# Altium integrated library altera-stratix-iv.IntLib: 38 symbols (part 9 of 21)
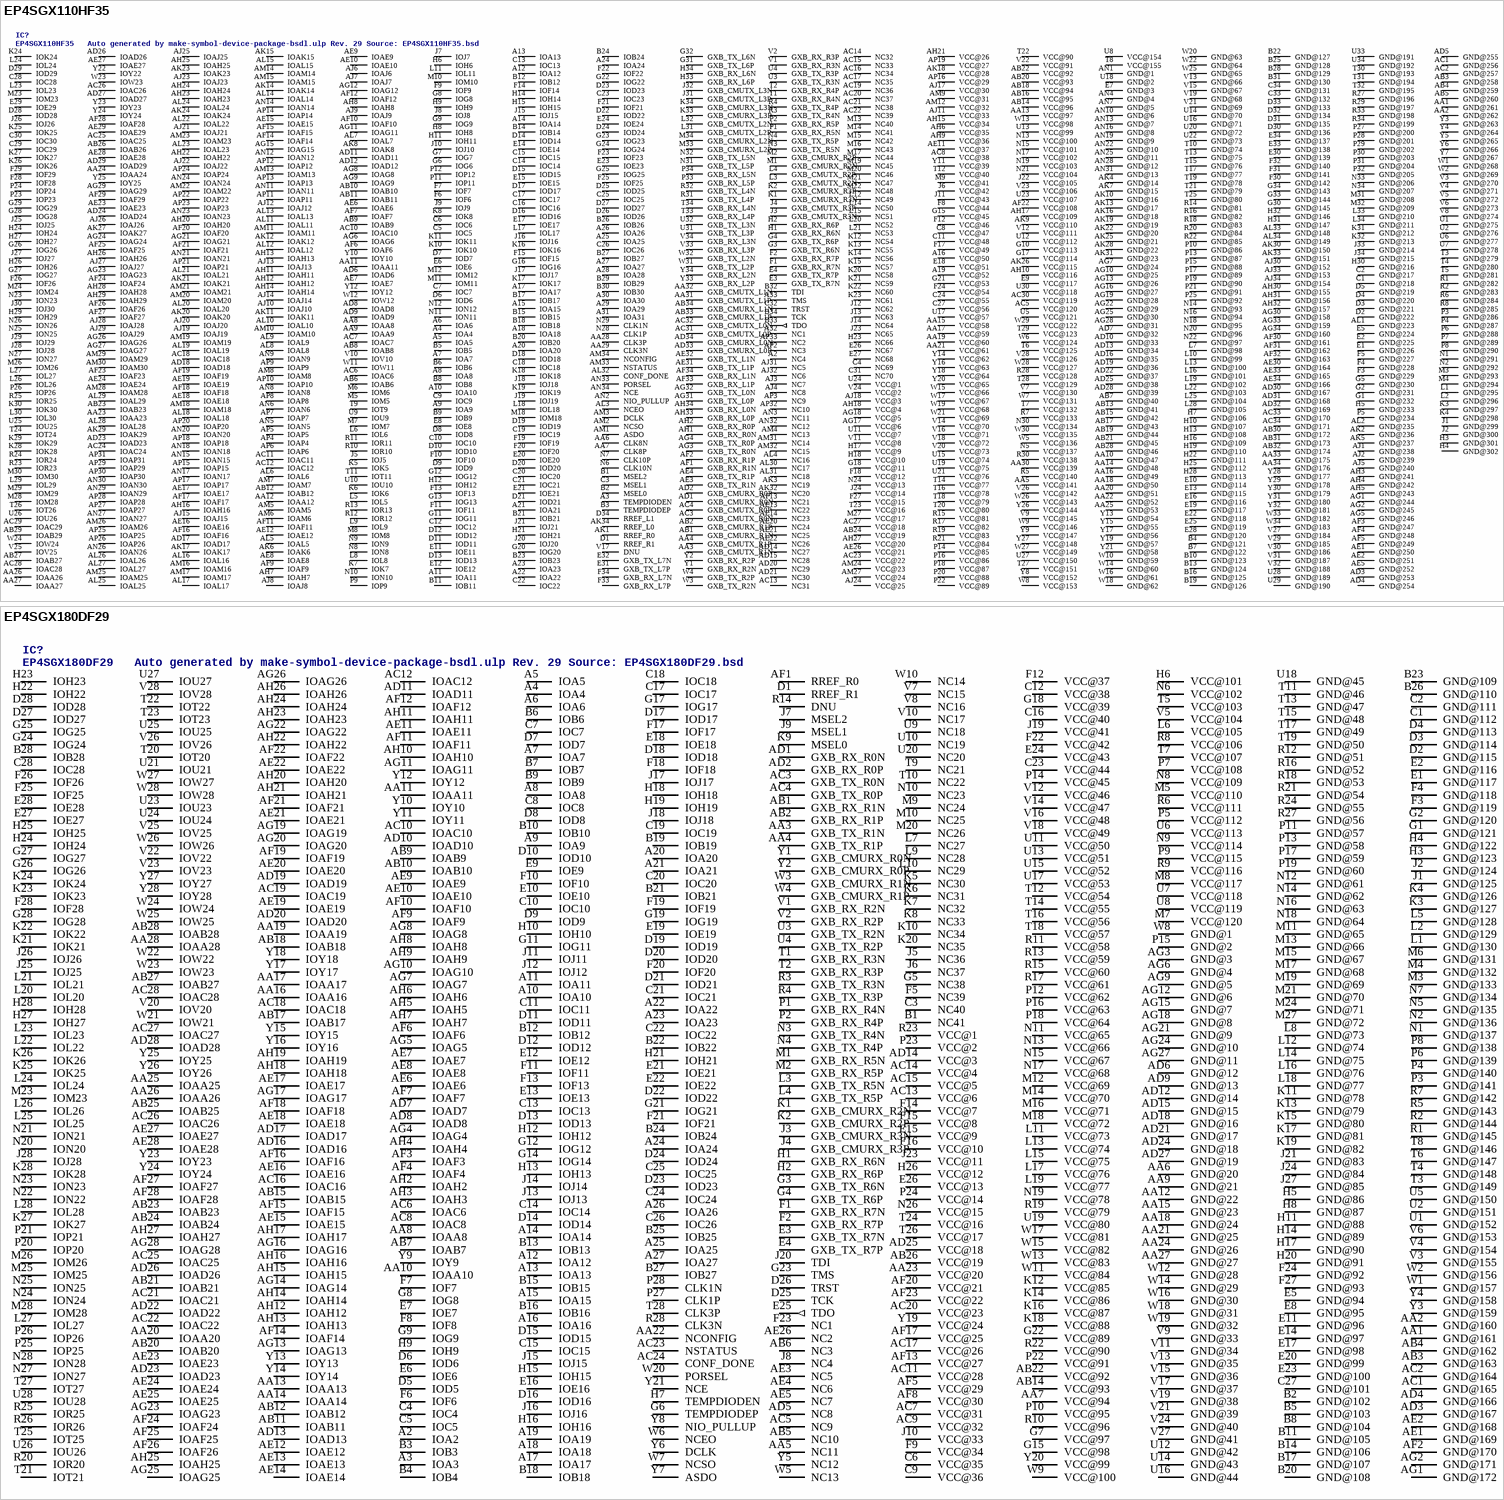
[diagram p24: symbols EP4SGX110HF35 to EP4SGX180DF29]

## EP4SGX110HF35
designator IC?, comment EP4SGX110HF35   Auto generated by make-symbol-device-package-bsdl.ulp Rev. 29 Source: EP4SGX110HF35.bsd
MPN: EP4SGX110HF35C2N; OC_FARNELL: unknown; OC_NEWARK: 52R1770
footprint FBGA1152
pins: A2 NC4, A3 TEMPDIODEN, A4 IOA4, A5 IOA5, A6 IOA6, A7 IOA7, A8 IOA8, A9 IOA9, A10 IOA10, A11 IOA11, A12 IOA12, A13 IOA13, A14 IOA14, A15 IOA15, A16 VCC@50 (power), A17 IOA17, A18 IOA18, A19 VCC@52 (power), A20 IOA20, A21 IOA21, A22 IOA22, A23 IOA23, A24 IOA24, A25 IOA25, A26 IOA26, A27 IOA27, A28 IOA28, A29 IOA29, A30 IOA30, A31 IOA31, A32 NC1, A33 TMS, AA1 GND@261 (power), AA2 GND@262 (power), AA3 GXB_CMUTX_R1N, AA4 GXB_CMUTX_R1P, AA5 VCC@141 (power), AA6 CLK8N, AA7 CLK8P, AA8 IOAA8, AA9 IOAA9, AA10 GND@47 (power), AA11 IOAA11, AA12 IOAA12, AA13 VCC@97 (power), AA14 GND@48 (power), AA15 VCC@58 (power), AA16 GND@49 (power), AA17 VCC@59 (power), AA18 GND@50 (power), AA19 VCC@60 (power), AA20 GND@51 (power), AA21 VCC@61 (power), AA22 GND@52 (power), AA23 IOAA23, AA24 IOAA24, AA25 GND@53 (power), AA26 IOAA26, AA27 IOAA27, AA28 CLK3P, AA29 CLK3N, AA30 VCC@139 (power), AA31 GXB_CMUTX_L1P, AA32 GXB_CMUTX_L1N, AA33 GND@175 (power), AA34 GND@176 (power), AB1 GXB_CMURX_R1N, AB2 GXB_CMURX_R1P, AB3 GND@258 (power), AB4 GND@259 (power), AB5 GND@260 (power), AB6 IOAB6, AB7 GND@40 (power), AB8 IOAB8, AB9 IOAB9, AB10 IOAB10, AB11 IOAB11, AB12 IOAB12, AB13 GND@41 (power), AB14 VCC@96 (power), AB15 GND@42 (power), AB16 VCC@95 (power), AB17 GND@43 (power), AB18 VCC@94 (power), AB19 GND@44 (power), AB20 VCC@93 (power), AB21 GND@45 (power), AB22 VCC@92 (power), AB23 IOAB23, AB24 VCC@19 (power), AB26 IOAB26, AB27 IOAB27, AB28 GND@46 (power), AB29 IOAB29, AB30 GND@172 (power), AB31 GND@173 (power), AB32 GND@174 (power), AB33 GXB_CMURX_L1P, AB34 GXB_CMURX_L1N, AC1 GND@256 (power), AC2 GND@257 (power), AC3 GXB_CMUTX_R0N, AC4 GXB_CMUTX_R0P, AC5 VCC@120 (power), AC6 IOAC6, AC7 IOAC7, AC8 VCC@38 (power), AC10 IOAC10, AC11 IOAC11, AC12 IOAC12, AC13 NC31, AC14 NC32, AC15 NC33, AC16 NC34, AC17 NC35, AC18 IOAC18, AC19 NC36, AC20 NC37, AC21 NC38, AC22 NC39, AC23 VCC@22 (power), AC24 IOAC24, AC25 IOAC25, AC26 IOAC26, AC27 VCC@18 (power), AC28 IOAC28, AC29 IOAC29, AC30 VCC@119 (power), AC31 GXB_CMUTX_L0P, AC32 GXB_CMUTX_L0N, AC33 GND@170 (power), AC34 GND@171 (power), AD1 GXB_CMURX_R0N, AD2 GXB_CMURX_R0P, AD3 GND@253 (power), AD4 GND@254 (power), AD5 GND@255 (power), AD6 IOAD6, AD7 GND@32 (power), AD8 IOAD8, AD9 IOAD9, AD10 GND@33 (power), AD11 IOAD11, AD12 IOAD12, AD13 GND@34 (power), AD14 NC27, AD15 NC28, AD16 GND@35 (power), AD17 IOAD17, AD18 IOAD18, AD19 GND@36 (power), AD20 NC29, AD21 NC30, AD22 GND@37 (power), AD23 IOAD23, AD24 IOAD24, AD25 GND@38 (power), AD26 IOAD26, AD27 IOAD27, AD28 GND@39 (power), AD29 IOAD29, AD30 GND@167 (power), AD31 GND@168 (power), AD32 GND@169 (power), AD33 GXB_CMURX_L0P, AD34 GXB_CMURX_L0N, AE1 GND@250 (power), AE2 GND@251 (power), AE3 GXB_TX_R1N, AE4 GXB_TX_R1P, AE5 GND@252 (power), AE6 IOAE6, AE7 IOAE7, AE8 IOAE8, AE9 IOAE9, AE10 IOAE10, AE11 VCC@37 (power), AE12 IOAE12, AE13 NC22, AE14 NC23, AE15 IOAE15, AE16 IOAE16, AE17 IOAE17, AE18 IOAE18, AE19 IOAE19, AE20 NC24, AE21 NC25, AE22 NC26, AE23 IOAE23, AE24 IOAE24, AE26 VCC@21 (power), AE27 IOAE27, AE28 IOAE28, AE29 IOAE29, AE30 GND@164 (power), AE31 GXB_TX_L1P, AE32 GXB_TX_L1N, AE33 GND@165 (power), AE34 GND@166 (power), AF1 GXB_RX_R1N, AF2 GXB_RX_R1P, AF3 GND@247 (power), AF4 GND@248 (power), AF5 GND@249 (power), AF6 IOAF6, AF7 IOAF7, AF9 IOAF9, AF10 IOAF10, AF11 IOAF11, AF12 IOAF12, AF13 NC21, AF14 IOAF14, AF15 IOAF15, AF16 IOAF16, AF17 IOAF17, AF18 IOAF18, AF19 IOAF19, AF20 IOAF20, AF21 IOAF21, AF22 VCC@108 (power), AF23 IOAF23, AF24 IOAF24, AF25 IOAF25, AF26 IOAF26, AF27 IOAF27, AF28 IOAF28, AF29 IOAF29, AF30 GND@161 (power), AF31 GND@162 (power), AF32 GND@163 (power), AF33 GXB_RX_L1P, AF34 GXB_RX_L1N, AG1 GND@244 (power), AG2 GND@245 (power), AG3 GXB_TX_R0N, AG4 GXB_TX_R0P, AG5 GND@246 (power), AG6 IOAG6, AG7 GND@24 (power), AG8 IOAG8, AG9 IOAG9, AG10 GND@25 (power), AG11 IOAG11, AG12 IOAG12, AG13 GND@26 (power), AG15 IOAG15, AG16 GND@27 (power), AG17 VCC@6 (power), AG18 VCC@5 (power), AG19 GND@28 (power), AG21 IOAG21, AG22 GND@29 (power), AG23 IOAG23, AG24 IOAG24, AG25 GND@30 (power), AG26 IOAG26, AG27 IOAG27, AG28 GND@31 (power), AG29 IOAG29, AG30 GND@158 (power), AG31 GXB_TX_L0P, AG32 GXB_TX_L0N, AG33 GND@159 (power), AG34 GND@160 (power), AH1 GXB_RX_R0N, AH2 GXB_RX_R0P, AH3 GND@241 (power), AH4 GND@242 (power), AH5 GND@243 (power), AH6 VCC@35 (power), AH7 IOAH7, AH8 IOAH8, AH9 VCC@36 (power), AH10 VCC@116 (power), AH11 IOAH11, AH12 IOAH12, AH13 IOAH13, AH14 IOAH14, AH15 VCC@34 (power), AH16 IOAH16, AH17 VCC@109 (power), AH18 VCC@4 (power), AH20 IOAH20, AH21 VCC@26 (power), AH22 IOAH22, AH23 IOAH23, AH24 IOAH24, AH25 IOAH25, AH26 IOAH26, AH27 VCC@20 (power), AH28 IOAH28, AH29 IOAH29, AH30 GND@155 (power), AH31 GND@156 (power), AH32 GND@157 (power), AH33 GXB_RX_L0P, AH34 GXB_RX_L0N, AJ1 GND@238 (power), AJ2 GND@239 (power), AJ3 NC7, AJ4 NC8, AJ5 GND@240 (power), AJ6 IOAJ6, AJ7 IOAJ7, AJ8 IOAJ8, AJ9 IOAJ9, AJ10 IOAJ10, AJ11 VCC@33 (power), AJ12 IOAJ12, AJ13 IOAJ13, AJ14 IOAJ14, AJ15 IOAJ15, AJ17 VCC@30 (power), AJ18 VCC@3 (power), AJ19 IOAJ19, AJ20 IOAJ20, AJ21 IOAJ21, AJ22 IOAJ22, AJ23 IOAJ23, AJ24 VCC@25 (power), AJ25 IOAJ25, AJ26 IOAJ26, AJ27 IOAJ27, AJ28 IOAJ28, AJ29 IOAJ29, AJ30 GND@152 (power), AJ31 NC5, AJ32 NC6, AJ33 GND@153 (power), AJ34 GND@154 (power), AK1 RREF_R0, AK2 GND@236 (power), AK3 NC19, AK4 GND@14 (power), AK5 GND@237 (power), AK6 IOAK6, AK7 GND@15 (power), AK8 IOAK8, AK9 VCC@110 (power), AK10 GND@16 (power), AK11 IOAK11, AK12 IOAK12, AK13 GND@17 (power), AK14 IOAK14, AK15 IOAK15, AK16 GND@18 (power), AK17 IOAK17, AK18 VCC@28 (power), AK19 GND@19 (power), AK20 IOAK20, AK21 IOAK21, AK22 GND@20 (power), AK23 IOAK23, AK24 IOAK24, AK25 GND@21 (power), AK26 VCC@115 (power), AK27 IOAK27, AK28 GND@22 (power), AK29 IOAK29, AK30 GND@150 (power), AK31 GND@23 (power), AK32 NC20, AK33 GND@151 (power), AK34 RREF_L0, AL1 GND@223 (power), AL2 GND@235 (power), AL3 NCEO, AL4 NC16, AL5 IOAL5, AL6 IOAL6, AL7 IOAL7, AL8 IOAL8, AL9 IOAL9, AL10 IOAL10, AL11 IOAL11, AL12 IOAL12, AL13 IOAL13, AL14 IOAL14, AL15 IOAL15, AL16 IOAL16, AL17 IOAL17, AL18 IOAL18, AL19 IOAL19, AL20 IOAL20, AL21 IOAL21, AL22 IOAL22, AL23 IOAL23, AL24 IOAL24, AL25 IOAL25, AL26 IOAL26, AL27 IOAL27, AL28 IOAL28, AL29 IOAL29, AL30 NC17, AL31 NC18, AL32 CONF_DONE, AL33 GND@148 (power), AL34 GND@149 (power), AM1 ASDO, AM2 NCSO, AM3 DCLK, AM4 NC13, AM5 IOAM5, AM6 IOAM6, AM7 IOAM7, AM8 IOAM8, AM9 VCC@31 (power), AM10 IOAM10, AM11 IOAM11, AM12 VCC@32 (power), AM13 IOAM13, AM14 IOAM14, AM15 IOAM15, AM16 IOAM16, AM17 IOAM17, AM18 IOAM18, AM19 IOAM19, AM20 IOAM20, AM21 IOAM21, AM22 IOAM22, AM23 IOAM23, AM24 VCC@23 (power), AM25 IOAM25, AM26 IOAM26, AM27 VCC@24 (power), AM28 IOAM28, AM29 IOAM29, AM30 IOAM30, AM31 NC14, AM32 NC15, AM33 NSTATUS, AM34 NCONFIG, AN1 GND@1 (power), AN2 NIO_PULLUP, AN3 NC11, AN4 GND@4 (power), AN5 IOAN5, AN6 IOAN6, AN7 GND@5 (power), AN8 IOAN8, AN9 IOAN9, AN10 GND@6 (power), AN11 IOAN11, AN12 IOAN12, AN13 GND@7 (power), AN14 IOAN14, AN15 IOAN15, AN16 GND@8 (power), AN17 IOAN17, AN18 IOAN18, AN19 GND@9 (power), AN20 IOAN20, AN21 IOAN21, AN22 GND@10 (power), AN23 IOAN23, AN24 IOAN24, AN25 GND@11 (power), AN26 IOAN26, AN27 IOAN27, AN28 GND@12 (power), AN29 IOAN29, AN30 IOAN30, AN31 GND@13 (power), AN32 NC12, AN33 PORSEL, AN34 NCE, AP2 NC3, AP3 NC9, AP4 IOAP4, AP5 IOAP5, AP6 IOAP6, AP7 IOAP7, AP8 IOAP8, AP9 IOAP9, AP10 IOAP10, AP11 IOAP11, AP12 IOAP12, AP13 IOAP13, AP14 IOAP14, AP15 IOAP15, AP16 VCC@29 (power), AP17 IOAP17, AP18 IOAP18, AP19 VCC@27 (power), AP20 IOAP20, AP21 IOAP21, AP22 IOAP22, AP23 IOAP23, AP24 IOAP24, AP25 IOAP25, AP26 IOAP26, AP27 IOAP27, AP28 IOAP28, AP29 IOAP29, AP30 IOAP30, AP31 IOAP31, AP32 NC10, AP33 NC2, B1 MSEL2, B2 MSEL0, B3 TEMPDIODEP, B4 GND@121 (power), B5 IOB5, B6 IOB6, B7 GND@122 (power), B8 IOB8, B9 IOB9, B10 GND@123 (power), B11 IOB11, B12 IOB12, B13 GND@124 (power), B14 IOB14, B15 IOB15, B16 GND@125 (power), B17 IOB17, B18 IOB18, B19 GND@126 (power), B20 IOB20, B21 IOB21, B22 GND@127 (power), B23 IOB23, B24 IOB24, B25 GND@128 (power), B26 IOB26, B27 IOB27, B28 GND@129 (power), B29 IOB29, B30 IOB30, B31 GND@130 (power), B32 TDI, B33 TDO (out), B34 TCK, C1 GND@218 (power), C2 GND@217 (power), C3 MSEL1, C4 NC69, C5 IOC5, C6 IOC6, C7 IOC7, C8 VCC@47 (power), C9 IOC9, C10 IOC10, C11 VCC@48 (power), C12 IOC12, C13 IOC13, C14 IOC14, C15 IOC15, C16 IOC16, C17 IOC17, C18 IOC18, C19 IOC19, C20 IOC20, C21 IOC21, C22 IOC22, C23 IOC23, C24 VCC@55 (power), C25 IOC25, C26 IOC26, C27 VCC@56 (power), C28 IOC28, C29 IOC29, C30 IOC30, C31 NC70, C32 TRST, C33 GND@132 (power), C34 GND@131 (power), D1 RREF_R1, D2 GND@222 (power), D3 GND@221 (power), D4 GND@220 (power), D5 GND@219 (power), D6 IOD6, D7 IOD7, D8 IOD8, D9 IOD9, D10 IOD10, D11 IOD11, D12 IOD12, D13 IOD13, D14 IOD14, D15 IOD15, D16 IOD16, D17 IOD17, D18 IOD18, D19 IOD19, D20 IOD20, D21 IOD21, D22 IOD22, D23 IOD23, D24 IOD24, D25 IOD25, D26 IOD26, D27 IOD27, D28 IOD28, D29 IOD29, D30 GND@136 (power), D31 GND@135 (power), D32 GND@134 (power), D33 GND@133 (power), D34 RREF_L1, E1 GND@226 (power), E2 GND@225 (power), E3 GXB_TX_R7N, E4 GXB_TX_R7P, E5 GND@224 (power), E6 IOE6, E7 GND@3 (power), E8 IOE8, E9 VCC@117 (power), E10 GND@114 (power), E11 IOE11, E12 IOE12, E13 GND@115 (power), E14 IOE14, E15 IOE15, E16 GND@116 (power), E17 IOE17, E18 VCC@51 (power), E19 GND@117 (power), E20 IOE20, E21 IOE21, E22 GND@118 (power), E23 IOE23, E24 IOE24, E25 GND@119 (power), E26 NC67, E27 NC68, E28 GND@120 (power), E29 IOE29, E30 GND@139 (power), E31 GXB_TX_L7P, E32 GXB_TX_L7N, E33 GND@138 (power), E34 GND@137 (power), F1 GXB_RX_R7N, F2 GXB_RX_R7P, F3 GND@229 (power), F4 GND@228 (power), F5 GND@227 (power), F6 IOF6, F7 IOF7, F8 VCC@44 (power), F9 IOF9, F10 IOF10, F11 IOF11, F12 VCC@46 (power), F13 IOF13, F14 IOF14, F15 IOF15, F17 VCC@49 (power), F18 VCC@12 (power), F19 IOF19, F20 IOF20, F21 IOF21, F22 IOF22, F23 IOF23, F24 VCC@54 (power), F25 IOF25, F26 IOF26, F27 VCC@15 (power), F28 IOF28, F29 IOF29, F30 GND@142 (power), F31 GND@141 (power), F32 GND@140 (power), F33 GXB_RX_L7P, F34 GXB_RX_L7N, G1 GND@232 (power), G2 GND@231 (power), G3 GXB_TX_R6N, G4 GXB_TX_R6P, G5 GND@230 (power), G6 IOG6, G7 IOG7, G8 IOG8, G9 IOG9, G10 VCC@113 (power), G11 IOG11, G12 IOG12, G13 IOG13, G15 VCC@45 (power), G16 IOG16, G17 VCC@114 (power), G18 VCC@11 (power), G20 IOG20, G21 VCC@53 (power), G22 IOG22, G23 IOG23, G24 IOG24, G25 IOG25, G26 IOG26, G27 IOG27, G28 IOG28, G29 IOG29, G30 GND@145 (power), G31 GXB_TX_L6P, G32 GXB_TX_L6N, G33 GND@144 (power), G34 GND@143 (power), H1 GXB_RX_R6N, H2 GXB_RX_R6P, H3 GND@301 (power), H4 GND@302 (power), H5 GND@233 (power), H6 IOH6, H7 GND@106 (power), H8 IOH8, H9 IOH9, H10 GND@107 (power), H11 IOH11, H12 IOH12, H13 GND@108 (power), H14 IOH14, H15 IOH15, H16 GND@109 (power), H17 VCC@9 (power), H18 VCC@10 (power), H19 GND@110 (power), H21 IOH21, H22 GND@111 (power), H23 NC66, H24 IOH24, H25 GND@112 (power), H26 IOH26, H27 IOH27, H28 GND@113 (power), H29 IOH29, H30 GND@216 (power), H31 GND@147 (power), H32 GND@146 (power), H33 GXB_RX_L6P, H34 GXB_RX_L6N, J1 GND@299 (power), J2 GND@300 (power), J3 GXB_CMUTX_R3N, J4 GXB_CMUTX_R3P, J5 IOJ5, J6 VCC@42 (power), J7 IOJ7, J8 IOJ8, J9 IOJ9, J10 IOJ10, J11 VCC@43 (power), J12 NC62, J13 NC63, J14 NC64, J15 IOJ15, J16 IOJ16, J17 IOJ17, J18 IOJ18, J19 IOJ19, J20 IOJ20, J21 IOJ21, J22 VCC@105 (power), J23 NC65, J24 VCC@14 (power), J25 IOJ25, J26 IOJ26, J27 IOJ27, J28 IOJ28, J29 IOJ29, J30 IOJ30, J31 GXB_CMUTX_L3P, J32 GXB_CMUTX_L3N, J33 GND@214 (power), J34 GND@215 (power), K1 GXB_CMURX_R3N, K2 GXB_CMURX_R3P, K3 GND@297 (power), K4 GND@298 (power), K5 IOK5, K6 IOK6, K7 IOK7, K8 IOK8, K10 IOK10, K11 IOK11, K12 NC54, K13 NC55, K14 NC56, K15 NC57, K16 IOK16, K17 IOK17, K18 IOK18, K19 IOK19, K20 NC58, K21 NC59, K22 NC60, K23 NC61, K24 IOK24, K25 IOK25, K26 IOK26, K27 IOK27, K28 IOK28, K29 IOK29, K30 IOK30, K31 GND@212 (power), K32 GND@213 (power), K33 GXB_CMURX_L3P, K34 GXB_CMURX_L3N, L1 GND@295 (power), L2 GND@296 (power), L3 GXB_CMUTX_R2N, L4 GXB_CMUTX_R2P, L5 IOL5, L6 IOL6, L7 GND@98 (power), L8 IOL8, L9 IOL9, L10 GND@99 (power), L11 IOL11, L12 NC49, L13 GND@100 (power), L14 NC50, L15 NC51, L16 GND@101 (power), L17 IOL17, L18 IOL18, L19 GND@102 (power), L20 NC52, L21 NC53, L22 GND@103 (power), L23 IOL23, L24 IOL24, L25 GND@104 (power), L26 IOL26, L27 IOL27, L28 GND@105 (power), L29 IOL29, L30 IOL30, L31 GXB_CMUTX_L2P, L32 GXB_CMUTX_L2N, L33 GND@210 (power), L34 GND@211 (power), M1 GXB_CMURX_R2N, M2 GXB_CMURX_R2P, M3 GND@293 (power), M4 GND@294 (power), M5 IOM5, M6 IOM6, M7 IOM7, M8 IOM8, M9 VCC@41 (power), M10 IOM10, M11 IOM11, M12 IOM12, M13 NC40, M14 NC41, M15 NC42, M16 NC43, M17 NC44, M18 IOM18, M19 NC45, M20 NC46, M21 NC47, M22 NC48, M23 IOM23, M24 IOM24, M26 IOM26, M27 VCC@17 (power), M28 IOM28, M29 IOM29, M30 IOM30, M31 GND@208 (power), M32 GND@209 (power), M33 GXB_CMURX_L2P, M34 GXB_CMURX_L2N, N1 GND@291 (power), N2 GND@292 (power), N3 GXB_TX_R5N, N4 GXB_TX_R5P, N5 VCC@137 (power), N6 CLK10N, N7 CLK10P, N8 ION8, N9 ION9, N10 ION10, N11 ION11, N12 ION12, N13 VCC@100 (power), N14 GND@93 (power), N15 VCC@101 (power), N16 GND@94 (power), N17 VCC@102 (power), N18 GND@95 (power), N19 VCC@103 (power), N20 GND@96 (power), N21 VCC@104 (power), N22 GND@97 (power), N23 ION23, N24 VCC@13 (power), N25 ION25, N26 ION26, N27 ION27, N28 CLK1P, N29 CLK1N, N30 VCC@134 (power), N31 GXB_TX_L5P, N32 GXB_TX_L5N, N33 GND@206 (power), N34 GND@207 (power), P1 GXB_RX_R5N, P2 GXB_RX_R5P, P3 GND@286 (power), P4 GND@287 (power), P5 GND@234 (power), P6 GND@288 (power), P7 GND@289 (power), P8 GND@290 (power), P9 IOP9, P10 GND@86 (power), P11 IOP11, P12 IOP12, P13 GND@87 (power), P14 VCC@85 (power), P15 GND@88 (power), P16 VCC@86 (power), P17 GND@89 (power), P18 VCC@87 (power), P19 GND@90 (power), P20 VCC@88 (power), P21 GND@91 (power), P22 VCC@89 (power), P23 IOP23, P24 IOP24, P25 GND@92 (power), P26 IOP26, P27 GND@200 (power), P28 GND@201 (power), P29 GND@202 (power), P30 GND@203 (power), P31 GND@204 (power), P32 GND@205 (power), P33 GXB_RX_L5P, P34 GXB_RX_L5N, R1 GND@282 (power), R2 GND@283 (power), R3 GXB_TX_R4N, R4 GXB_TX_R4P, R5 VCC@140 (power), R6 GND@284 (power), R7 VCC@133 (power), R8 GND@285 (power), R10 IOR10, R11 IOR11, R12 IOR12, R13 IOR13, R14 GND@81 (power), R15 VCC@81 (power), R16 GND@82 (power), R17 VCC@82 (power), R18 GND@83 (power), R19 VCC@83 (power), R20 GND@84 (power), R21 VCC@84 (power), R22 GND@85 (power), R23 IOR23, R24 IOR24, R25 IOR25, R27 GND@196 (power), R28 VCC@128 (power), R29 GND@197 (power), R30 VCC@138 (power), R31 GXB_TX_L4P, R32 GXB_TX_L4N, R33 GND@198 (power), R34 GND@199 (power), T1 GXB_RX_R4N, T2 GXB_RX_R4P, T3 GND@279 (power), T4 GND@280 (power), T5 GND@281 (power), T6 VCC@125 (power), T7 VCC@132 (power), T8 VCC@155 (power), T9 IOT9, T10 GND@74 (power), T11 IOT11, T12 VCC@40 (power), T13 GND@75 (power), T14 VCC@77 (power), T15 GND@76 (power), T16 VCC@78 (power), T17 GND@77 (power), T18 VCC@79 (power), T19 GND@78 (power), T20 VCC@80 (power), T21 GND@79 (power), T22 VCC@90 (power), T23 VCC@16 (power), T24 IOT24, T25 GND@80 (power), T26 IOT26, T27 VCC@151 (power), T28 VCC@129 (power), T29 VCC@123 (power), T30 GND@193 (power), T31 GND@194 (power), T32 GND@195 (power), T33 GXB_RX_L4P, T34 GXB_RX_L4N, U1 GND@275 (power), U2 GND@276 (power), U3 GXB_TX_R3N, U4 GXB_TX_R3P, U5 VCC@121 (power), U6 GND@277 (power), U7 GND@278 (power), U8 VCC@154 (power), U9 IOU9, U10 IOU10, U11 VCC@7 (power), U12 VCC@112 (power), U13 VCC@99 (power), U14 GND@70 (power), U15 VCC@74 (power), U16 GND@71 (power), U17 VCC@57 (power), U18 GND@2 (power), U19 VCC@75 (power), U20 GND@72 (power), U21 VCC@76 (power), U22 GND@73 (power), U23 VCC@107 (power), U24 VCC@1 (power), U25 IOU25, U26 IOU26, U27 VCC@150 (power), U28 GND@189 (power), U29 GND@190 (power), U30 VCC@118 (power), U31 GXB_TX_L3P, U32 GXB_TX_L3N, U33 GND@191 (power), U34 GND@192 (power), V1 GXB_RX_R3N, V2 GXB_RX_R3P, V3 GND@270 (power), V4 GND@271 (power), V5 GND@272 (power), V6 GND@273 (power), V7 VCC@130 (power), V8 GND@274 (power), V9 VCC@145 (power), V10 IOV10, V11 VCC@8 (power), V12 VCC@111 (power), V13 GND@66 (power), V14 VCC@70 (power), V15 GND@67 (power), V16 VCC@71 (power), V17 DNU, V18 VCC@72 (power), V19 GND@68 (power), V20 VCC@73 (power), V21 GND@69 (power), V22 VCC@91 (power), V23 VCC@106 (power), V24 VCC@2 (power), V25 IOV25, V26 VCC@142 (power), V27 GND@184 (power), V28 VCC@126 (power), V29 GND@185 (power), V30 GND@186 (power), V31 GND@187 (power), V32 GND@188 (power), V33 GXB_RX_L3P, V34 GXB_RX_L3N, W1 GND@268 (power), W2 GND@269 (power), W3 GXB_TX_R2N, W4 GXB_TX_R2P, W5 VCC@136 (power), W6 VCC@124 (power), W7 VCC@131 (power), W8 VCC@153 (power), W9 VCC@146 (power), W10 GND@59 (power), W11 IOW11, W12 IOW12, W13 VCC@98 (power), W14 GND@60 (power), W15 VCC@66 (power), W16 GND@61 (power), W17 VCC@67 (power), W18 GND@62 (power), W19 VCC@68 (power), W20 GND@63 (power), W21 VCC@69 (power), W22 GND@64 (power), W23 IOW23, W24 IOW24, W25 GND@65 (power), W26 VCC@143 (power), W27 VCC@149 (power), W28 VCC@127 (power), W29 VCC@122 (power), W30 VCC@135 (power), W31 GXB_TX_L2P, W32 GXB_TX_L2N, W33 GND@182 (power), W34 GND@183 (power), Y1 GXB_RX_R2N, Y2 GXB_RX_R2P, Y3 GND@263 (power), Y4 GND@264 (power), Y5 GND@265 (power), Y6 GND@266 (power), Y7 GND@267 (power), Y8 VCC@152 (power), Y9 VCC@147 (power), Y10 IOY10, Y11 VCC@39 (power), Y12 IOY12, Y13 GND@54 (power), Y14 VCC@62 (power), Y15 GND@55 (power), Y16 VCC@63 (power), Y17 GND@56 (power), Y18 VCC@64 (power), Y19 GND@57 (power), Y20 VCC@65 (power), Y21 GND@58 (power), Y22 IOY22, Y23 IOY23, Y24 IOY24, Y25 IOY25, Y26 VCC@144 (power), Y27 VCC@148 (power), Y28 GND@177 (power), Y29 GND@178 (power), Y30 GND@179 (power), Y31 GND@180 (power), Y32 GND@181 (power), Y33 GXB_RX_L2P, Y34 GXB_RX_L2N

## EP4SGX180DF29
designator IC?, comment EP4SGX180DF29   Auto generated by make-symbol-device-package-bsdl.ulp Rev. 29 Source: EP4SGX180DF29.bsd
MPN: EP4SGX180DF29C3N; OC_FARNELL: unknown; OC_NEWARK: 52R1782
footprint FBGA780
pins: A2 IOA2, A3 IOA3, A4 IOA4, A5 IOA5, A6 IOA6, A7 IOA7, A8 IOA8, A9 IOA9, A10 IOA10, A11 IOA11, A12 IOA12, A13 IOA13, A14 IOA14, A15 IOA15, A16 IOA16, A17 IOA17, A18 IOA18, A19 IOA19, A20 IOA20, A21 IOA21, A22 IOA22, A23 IOA23, A24 IOA24, A25 IOA25, A26 IOA26, A27 IOA27, AA1 GND@161 (power), AA2 GND@160 (power), AA3 GXB_TX_R1N, AA4 GXB_TX_R1P, AA5 NC11, AA6 GND@20 (power), AA7 VCC@94 (power), AA8 IOAA8, AA9 GND@21 (power), AA10 IOAA10, AA11 IOAA11, AA12 GND@22 (power), AA13 IOAA13, AA14 IOAA14, AA15 GND@23 (power), AA16 IOAA16, AA17 IOAA17, AA18 GND@24 (power), AA19 IOAA19, AA20 IOAA20, AA21 GND@25 (power), AA22 NCONFIG, AA23 VCC@20 (power), AA24 GND@26 (power), AA25 IOAA25, AA26 IOAA26, AA27 GND@27 (power), AA28 IOAA28, AB1 GXB_RX_R1N, AB2 GXB_RX_R1P, AB3 GND@163 (power), AB4 GND@162 (power), AB5 NC10, AB6 NC3, AB7 IOAB7, AB9 IOAB9, AB10 IOAB10, AB11 IOAB11, AB12 IOAB12, AB14 VCC@93 (power), AB15 IOAB15, AB17 IOAB17, AB18 IOAB18, AB20 IOAB20, AB21 IOAB21, AB22 VCC@92 (power), AB23 IOAB23, AB24 IOAB24, AB25 IOAB25, AB26 VCC@19 (power), AB27 IOAB27, AB28 IOAB28, AC1 GND@165 (power), AC2 GND@164 (power), AC3 GXB_TX_R0N, AC4 GXB_TX_R0P, AC5 NC9, AC6 IOAC6, AC7 VCC@31 (power), AC8 IOAC8, AC9 VCC@32 (power), AC10 IOAC10, AC11 VCC@28 (power), AC12 IOAC12, AC13 VCC@6 (power), AC14 VCC@4 (power), AC15 VCC@5 (power), AC16 IOAC16, AC17 VCC@26 (power), AC18 IOAC18, AC19 IOAC19, AC20 VCC@23 (power), AC21 IOAC21, AC22 IOAC22, AC23 NSTATUS, AC24 CONF_DONE, AC25 IOAC25, AC26 IOAC26, AC27 IOAC27, AC28 IOAC28, AD1 GXB_RX_R0N, AD2 GXB_RX_R0P, AD3 GND@167 (power), AD4 GND@166 (power), AD5 NC8, AD6 GND@12 (power), AD7 IOAD7, AD8 IOAD8, AD9 GND@13 (power), AD10 IOAD10, AD11 IOAD11, AD12 GND@14 (power), AD13 IOAD13, AD14 VCC@3 (power), AD15 GND@15 (power), AD16 IOAD16, AD17 IOAD17, AD18 GND@16 (power), AD19 IOAD19, AD20 IOAD20, AD21 GND@17 (power), AD22 IOAD22, AD23 IOAD23, AD24 GND@18 (power), AD25 VCC@18 (power), AD26 IOAD26, AD27 GND@19 (power), AD28 IOAD28, AE1 GND@169 (power), AE2 GND@168 (power), AE3 NC5, AE4 NC6, AE5 NC7, AE6 IOAE6, AE7 IOAE7, AE8 IOAE8, AE9 IOAE9, AE10 IOAE10, AE11 IOAE11, AE12 IOAE12, AE13 IOAE13, AE14 IOAE14, AE15 IOAE15, AE16 IOAE16, AE17 IOAE17, AE18 IOAE18, AE19 IOAE19, AE20 IOAE20, AE21 IOAE21, AE22 IOAE22, AE23 IOAE23, AE24 IOAE24, AE25 IOAE25, AE26 NC2, AE27 IOAE27, AE28 IOAE28, AF1 RREF_R0, AF2 GND@170 (power), AF3 IOAF3, AF4 IOAF4, AF5 VCC@29 (power), AF6 IOAF6, AF7 IOAF7, AF8 VCC@30 (power), AF9 IOAF9, AF10 IOAF10, AF11 IOAF11, AF12 IOAF12, AF13 VCC@27 (power), AF14 IOAF14, AF15 IOAF15, AF16 IOAF16, AF17 VCC@25 (power), AF18 IOAF18, AF19 IOAF19, AF20 VCC@21 (power), AF21 IOAF21, AF22 IOAF22, AF23 VCC@22 (power), AF24 IOAF24, AF25 IOAF25, AF26 IOAF26, AF27 IOAF27, AF28 IOAF28, AG1 GND@172 (power), AG2 GND@171 (power), AG3 GND@3 (power), AG4 IOAG4, AG5 IOAG5, AG6 GND@4 (power), AG7 IOAG7, AG8 IOAG8, AG9 GND@5 (power), AG10 IOAG10, AG11 IOAG11, AG12 GND@6 (power), AG13 IOAG13, AG14 IOAG14, AG15 GND@7 (power), AG16 IOAG16, AG17 IOAG17, AG18 GND@8 (power), AG19 IOAG19, AG20 IOAG20, AG21 GND@9 (power), AG22 IOAG22, AG23 IOAG23, AG24 GND@10 (power), AG25 IOAG25, AG26 IOAG26, AG27 GND@11 (power), AG28 IOAG28, AH2 IOAH2, AH3 IOAH3, AH4 IOAH4, AH5 IOAH5, AH6 IOAH6, AH7 IOAH7, AH8 IOAH8, AH9 IOAH9, AH10 IOAH10, AH11 IOAH11, AH12 IOAH12, AH13 IOAH13, AH14 IOAH14, AH15 IOAH15, AH16 IOAH16, AH17 IOAH17, AH18 IOAH18, AH19 IOAH19, AH20 IOAH20, AH21 IOAH21, AH22 IOAH22, AH23 IOAH23, AH24 IOAH24, AH25 IOAH25, AH26 IOAH26, AH27 IOAH27, B1 NC41, B2 GND@102 (power), B3 IOB3, B4 IOB4, B5 GND@103 (power), B6 IOB6, B7 IOB7, B8 GND@104 (power), B9 IOB9, B10 IOB10, B11 GND@105 (power), B12 IOB12, B13 IOB13, B14 GND@106 (power), B15 IOB15, B16 IOB16, B17 GND@107 (power), B18 IOB18, B19 IOB19, B20 GND@108 (power), B21 IOB21, B22 IOB22, B23 GND@109 (power), B24 IOB24, B25 IOB25, B26 GND@110 (power), B27 IOB27, B28 IOB28, C1 GND@112 (power), C2 GND@111 (power), C3 NC40, C4 IOC4, C5 IOC5, C6 VCC@35 (power), C7 IOC7, C8 IOC8, C9 VCC@36 (power), C10 IOC10, C11 IOC11, C12 VCC@38 (power), C13 IOC13, C14 IOC14, C15 IOC15, C16 VCC@40 (power), C17 IOC17, C18 IOC18, C19 IOC19, C20 IOC20, C21 IOC21, C22 IOC22, C23 VCC@44 (power), C24 IOC24, C25 IOC25, C26 IOC26, C27 GND@101 (power), C28 IOC28, D1 RREF_R1, D2 GND@115 (power), D3 GND@114 (power), D4 GND@113 (power), D5 IOD5, D6 IOD6, D7 IOD7, D8 IOD8, D9 IOD9, D10 IOD10, D11 IOD11, D12 IOD12, D13 IOD13, D14 IOD14, D15 IOD15, D16 IOD16, D17 IOD17, D18 IOD18, D19 IOD19, D20 IOD20, D21 IOD21, D22 IOD22, D23 IOD23, D24 IOD24, D25 TCK, D26 TRST, D27 IOD27, D28 IOD28, E1 GND@117 (power), E2 GND@116 (power), E3 GXB_TX_R7N, E4 GXB_TX_R7P, E5 GND@94 (power), E6 IOE6, E7 IOE7, E8 GND@95 (power), E9 IOE9, E10 IOE10, E11 GND@96 (power), E12 IOE12, E13 IOE13, E14 GND@97 (power), E15 VCC@9 (power), E16 IOE16, E17 GND@98 (power), E18 IOE18, E19 IOE19, E20 GND@99 (power), E21 IOE21, E22 IOE22, E23 GND@100 (power), E24 VCC@43 (power), E25 TDO (out), E26 VCC@13 (power), E27 IOE27, E28 IOE28, F1 GXB_RX_R7N, F2 GXB_RX_R7P, F3 GND@119 (power), F4 GND@118 (power), F5 NC39, F6 IOF6, F7 IOF7, F8 IOF8, F9 VCC@34 (power), F10 IOF10, F11 IOF11, F12 VCC@37 (power), F13 IOF13, F14 VCC@7 (power), F15 VCC@8 (power), F16 VCC@10 (power), F17 IOF17, F18 IOF18, F19 IOF19, F20 IOF20, F21 IOF21, F22 VCC@42 (power), F23 NC1, F24 GND@92 (power), F25 IOF25, F26 IOF26, F27 GND@93 (power), F28 IOF28, G1 GND@121 (power), G2 GND@120 (power), G3 GXB_TX_R6N, G4 GXB_TX_R6P, G5 NC38, G6 TEMPDIODEP, G7 VCC@97 (power), G8 IOG8, G9 IOG9, G11 IOG11, G12 IOG12, G14 IOG14, G15 VCC@98 (power), G17 IOG17, G18 VCC@39 (power), G19 IOG19, G21 IOG21, G22 VCC@89 (power), G23 TMS, G24 IOG24, G25 IOG25, G26 IOG26, G27 IOG27, G28 IOG28, H1 GXB_RX_R6N, H2 GXB_RX_R6P, H3 GND@123 (power), H4 GND@122 (power), H5 GND@86 (power), H6 VCC@101 (power), H7 TEMPDIODEN, H8 GND@87 (power), H9 IOH9, H10 IOH10, H11 GND@88 (power), H12 IOH12, H13 IOH13, H14 GND@89 (power), H15 IOH15, H16 IOH16, H17 GND@90 (power), H18 IOH18, H19 IOH19, H20 GND@91 (power), H21 IOH21, H22 IOH22, H23 IOH23, H24 IOH24, H25 IOH25, H26 VCC@12 (power), H27 IOH27, H28 IOH28, J1 GND@125 (power), J2 GND@124 (power), J3 GXB_CMURX_R3N, J4 GXB_CMURX_R3P, J5 NC36, J6 NC37, J7 MSEL2, J8 NC4, J9 MSEL1, J10 VCC@33 (power), J11 IOJ11, J12 IOJ12, J13 IOJ13, J14 IOJ14, J15 IOJ15, J16 IOJ16, J17 IOJ17, J18 IOJ18, J19 VCC@41 (power), J20 TDI, J21 GND@83 (power), J23 VCC@11 (power), J24 GND@84 (power), J25 IOJ25, J26 IOJ26, J27 GND@85 (power), J28 IOJ28, K1 GXB_CMURX_R2N, K2 GXB_CMURX_R2P, K3 GND@127 (power), K4 GND@126 (power), K5 NC30, K6 NC31, K7 NC32, K8 NC33, K9 MSEL0, K10 NC34, K11 GND@78 (power), K12 VCC@85 (power), K13 GND@79 (power), K14 VCC@86 (power), K15 GND@80 (power), K16 VCC@87 (power), K17 GND@81 (power), K18 VCC@88 (power), K19 GND@82 (power), K20 NC35, K21 IOK21, K22 IOK22, K23 IOK23, K24 IOK24, K25 IOK25, K26 IOK26, K27 IOK27, K28 IOK28, L1 GND@130 (power), L2 GND@129 (power), L3 GXB_TX_R5N, L4 GXB_TX_R5P, L5 GND@128 (power), L6 VCC@105 (power), L7 NC27, L8 GND@73 (power), L9 NC28, L10 NC29, L11 VCC@73 (power), L12 GND@74 (power), L13 VCC@74 (power), L14 GND@75 (power), L15 VCC@75 (power), L16 GND@76 (power), L17 VCC@76 (power), L18 GND@77 (power), L19 VCC@77 (power), L20 IOL20, L21 IOL21, L22 IOL22, L23 IOL23, L24 IOL24, L25 IOL25, L26 IOL26, L27 IOL27, L28 IOL28, M1 GXB_RX_R5N, M2 GXB_RX_R5P, M3 GND@133 (power), M4 GND@132 (power), M5 VCC@110 (power), M6 GND@131 (power), M7 VCC@120 (power), M8 VCC@117 (power), M9 NC24, M10 NC25, M11 GND@65 (power), M12 VCC@69 (power), M13 GND@66 (power), M14 VCC@70 (power), M15 GND@67 (power), M16 VCC@71 (power), M17 GND@68 (power), M18 VCC@72 (power), M19 GND@69 (power), M20 NC26, M21 GND@70 (power), M23 IOM23, M24 GND@71 (power), M25 IOM25, M26 IOM26, M27 GND@72 (power), M28 IOM28, N1 GND@137 (power), N2 GND@136 (power), N3 GXB_TX_R4N, N4 GXB_TX_R4P, N5 GND@135 (power), N6 VCC@102 (power), N7 GND@134 (power), N8 VCC@109 (power), N9 VCC@114 (power), N10 NC23, N11 VCC@65 (power), N12 GND@61 (power), N13 VCC@66 (power), N14 GND@62 (power), N15 VCC@67 (power), N16 GND@63 (power), N17 VCC@68 (power), N18 GND@64 (power), N19 VCC@78 (power), N20 ION20, N21 ION21, N22 ION22, N23 ION23, N24 ION24, N25 ION25, N26 VCC@15 (power), N27 ION27, N28 ION28, P1 GXB_RX_R4N, P2 GXB_RX_R4P, P3 GND@141 (power), P4 GND@140 (power), P5 VCC@112 (power), P6 GND@139 (power), P7 VCC@108 (power), P8 GND@138 (power), P9 VCC@115 (power), P10 VCC@95 (power), P11 GND@57 (power), P12 VCC@62 (power), P13 GND@58 (power), P14 VCC@45 (power), P15 GND@2 (power), P16 VCC@63 (power), P17 GND@59 (power), P18 VCC@64 (power), P19 GND@60 (power), P20 IOP20, P21 IOP21, P22 VCC@91 (power), P23 VCC@2 (power), P24 VCC@14 (power), P25 IOP25, P26 IOP26, P27 CLK1P, P28 CLK1N, R1 GND@145 (power), R2 GND@144 (power), R3 GXB_TX_R3N, R4 GXB_TX_R3P, R5 GND@143 (power), R6 VCC@111 (power), R7 GND@142 (power), R8 VCC@106 (power), R9 VCC@116 (power), R10 VCC@96 (power), R11 VCC@58 (power), R12 GND@51 (power), R13 VCC@59 (power), R14 DNU, R15 VCC@60 (power), R16 GND@52 (power), R17 VCC@61 (power), R18 GND@53 (power), R19 VCC@79 (power), R20 IOR20, R21 GND@54 (power), R22 VCC@90 (power), R23 VCC@1 (power), R24 GND@55 (power), R25 IOR25, R26 IOR26, R27 GND@56 (power), R28 CLK3N, T1 GXB_RX_R3N, T2 GXB_RX_R3P, T3 GND@149 (power), T4 GND@148 (power), T5 VCC@103 (power), T6 GND@147 (power), T7 VCC@107 (power), T8 GND@146 (power), T9 NC21, T10 NC22, T11 GND@46 (power), T12 VCC@54 (power), T13 GND@47 (power), T14 VCC@55 (power), T15 GND@48 (power), T16 VCC@56 (power), T17 GND@49 (power), T18 VCC@57 (power), T19 GND@50 (power), T20 IOT20, T21 IOT21, T22 IOT22, T23 IOT23, T24 VCC@16 (power), T25 IOT25, T26 VCC@17 (power), T27 IOT27, T28 CLK3P, U1 GND@152 (power), U2 GND@151 (power), U3 GXB_TX_R2N, U4 GXB_TX_R2P, U5 GND@150 (power), U6 VCC@113 (power), U7 VCC@118 (power), U8 VCC@119 (power), U9 NC18, U10 NC19, U11 VCC@50 (power), U12 GND@42 (power), U13 VCC@51 (power), U14 GND@43 (power), U15 VCC@52 (power), U16 GND@44 (power), U17 VCC@53 (power), U18 GND@45 (power), U19 VCC@80 (power), U20 NC20, U21 IOU21, U23 IOU23, U24 IOU24, U25 IOU25, U26 IOU26, U27 IOU27, U28 IOU28, V1 GXB_RX_R2N, V2 GXB_RX_R2P, V3 GND@155 (power), V4 GND@154 (power), V5 VCC@104 (power), V6 GND@153 (power), V7 NC15, V8 NC16, V9 GND@33 (power), V10 NC17, V11 GND@34 (power), V12 VCC@46 (power), V13 GND@35 (power), V14 VCC@47 (power), V15 GND@36 (power), V16 VCC@48 (power), V17 GND@37 (power), V18 VCC@49 (power), V19 GND@38 (power), V20 IOV20, V21 GND@39 (power), V22 IOV22, V23 IOV23, V24 GND@40 (power), V25 IOV25, V26 IOV26, V27 GND@41 (power), V28 IOV28, W1 GND@157 (power), W2 GND@156 (power), W3 GXB_CMURX_R1N, W4 GXB_CMURX_R1P, W5 NC13, W6 NCEO, W7 NCSO, W8 GND@1 (power), W9 VCC@100 (power), W10 NC14, W11 VCC@84 (power), W12 GND@28 (power), W13 VCC@83 (power), W14 GND@29 (power), W15 VCC@82 (power), W16 GND@30 (power), W17 VCC@81 (power), W18 GND@31 (power), W19 GND@32 (power), W20 PORSEL, W21 IOW21, W22 IOW22, W23 IOW23, W24 IOW24, W25 IOW25, W26 IOW26, W27 IOW27, W28 IOW28, Y1 GXB_CMURX_R0N, Y2 GXB_CMURX_R0P, Y3 GND@159 (power), Y4 GND@158 (power), Y5 NC12, Y6 DCLK, Y7 ASDO, Y8 NIO_PULLUP, Y9 IOY9, Y10 IOY10, Y11 IOY11, Y12 IOY12, Y13 IOY13, Y14 IOY14, Y15 IOY15, Y16 IOY16, Y17 IOY17, Y18 IOY18, Y19 VCC@24 (power), Y20 VCC@99 (power), Y21 NCE, Y23 IOY23, Y24 IOY24, Y25 IOY25, Y26 IOY26, Y27 IOY27, Y28 IOY28

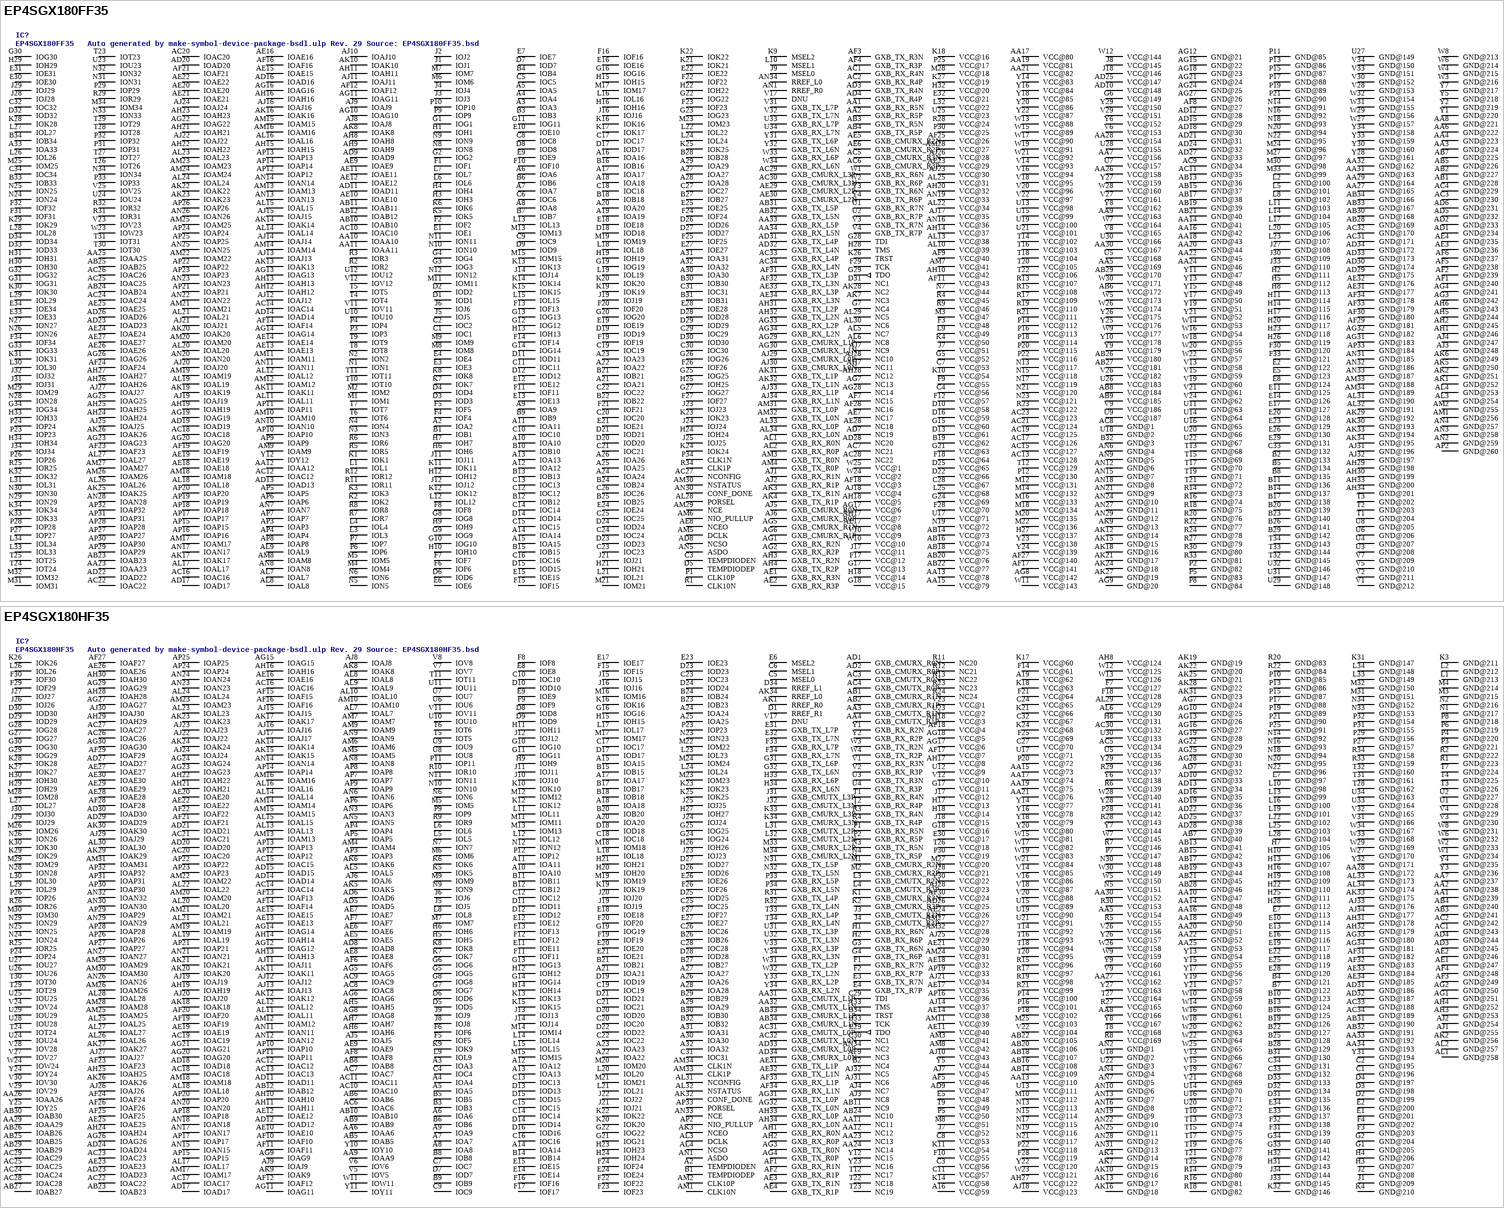
[diagram p8: symbols EP4SGX180FF35 to EP4SGX180HF35]

## EP4SGX180FF35
designator IC?, comment EP4SGX180FF35   Auto generated by make-symbol-device-package-bsdl.ulp Rev. 29 Source: EP4SGX180FF35.bsd
MPN: EP4SGX180FF35C3N; OC_FARNELL: unknown; OC_NEWARK: 52R1792
footprint FBGA1152
pins: A2 IOA2, A3 IOA3, A4 IOA4, A5 IOA5, A6 IOA6, A7 IOA7, A8 IOA8, A9 IOA9, A10 IOA10, A11 IOA11, A12 IOA12, A13 IOA13, A14 IOA14, A15 IOA15, A16 IOA16, A17 IOA17, A18 IOA18, A19 IOA19, A20 IOA20, A21 IOA21, A22 IOA22, A23 IOA23, A24 IOA24, A25 IOA25, A26 IOA26, A27 IOA27, A28 IOA28, A29 IOA29, A30 IOA30, A31 IOA31, A32 IOA32, A33 IOA33, AA1 GXB_RX_R5N, AA2 GXB_RX_R5P, AA3 GND@224 (power), AA4 GND@223 (power), AA5 VCC@169 (power), AA6 GND@222 (power), AA7 VCC@156 (power), AA8 GND@221 (power), AA9 VCC@163 (power), AA10 IOAA10, AA11 IOAA11, AA12 IOAA12, AA13 VCC@78 (power), AA14 GND@41 (power), AA15 VCC@79 (power), AA16 GND@42 (power), AA17 VCC@80 (power), AA18 GND@43 (power), AA19 VCC@81 (power), AA20 GND@44 (power), AA21 VCC@82 (power), AA22 GND@45 (power), AA23 IOAA23, AA24 GND@46 (power), AA25 IOAA25, AA26 VCC@158 (power), AA27 GND@165 (power), AA28 VCC@154 (power), AA29 GND@164 (power), AA30 VCC@167 (power), AA31 GND@163 (power), AA32 GND@162 (power), AA33 GXB_RX_L5P, AA34 GXB_RX_L5N, AB1 GND@228 (power), AB2 GND@227 (power), AB3 GXB_TX_R5N, AB4 GXB_TX_R5P, AB5 GND@226 (power), AB6 VCC@172 (power), AB7 GND@225 (power), AB8 VCC@184 (power), AB9 VCC@185 (power), AB10 IOAB10, AB11 IOAB11, AB12 IOAB12, AB13 GND@36 (power), AB14 VCC@73 (power), AB15 GND@37 (power), AB16 VCC@74 (power), AB17 GND@38 (power), AB18 VCC@75 (power), AB19 GND@39 (power), AB20 VCC@76 (power), AB21 GND@40 (power), AB22 VCC@77 (power), AB23 IOAB23, AB24 IOAB24, AB25 IOAB25, AB26 VCC@180 (power), AB27 VCC@181 (power), AB28 GND@169 (power), AB29 VCC@170 (power), AB30 GND@168 (power), AB31 GXB_TX_L5P, AB32 GXB_TX_L5N, AB33 GND@167 (power), AB34 GND@166 (power), AC1 GXB_RX_R4N, AC2 GXB_RX_R4P, AC3 GND@230 (power), AC4 GND@229 (power), AC5 GXB_CMURX_R3N, AC6 GXB_CMURX_R3P, AC7 NC21, AC8 GND@1 (power), AC9 GND@34 (power), AC10 IOAC10, AC11 GND@35 (power), AC12 IOAC12, AC13 VCC@128 (power), AC14 IOAC14, AC15 VCC@127 (power), AC16 IOAC16, AC17 VCC@126 (power), AC18 IOAC18, AC19 VCC@125 (power), AC20 IOAC20, AC21 VCC@124 (power), AC22 IOAC22, AC23 VCC@123 (power), AC24 IOAC24, AC25 IOAC25, AC26 IOAC26, AC27 NCONFIG, AC28 NC22, AC29 GXB_CMURX_L3P, AC30 GXB_CMURX_L3N, AC31 GND@171 (power), AC32 GND@170 (power), AC33 GXB_RX_L4P, AC34 GXB_RX_L4N, AD1 GND@234 (power), AD2 GND@233 (power), AD3 GXB_TX_R4N, AD4 GXB_TX_R4P, AD5 GND@232 (power), AD6 GND@231 (power), AD7 NC19, AD8 NCSO, AD9 IOAD9, AD10 VCC@148 (power), AD11 IOAD11, AD12 GND@28 (power), AD13 IOAD13, AD14 IOAD14, AD15 GND@29 (power), AD16 IOAD16, AD17 IOAD17, AD18 GND@30 (power), AD19 IOAD19, AD20 IOAD20, AD21 GND@31 (power), AD22 IOAD22, AD23 IOAD23, AD24 GND@32 (power), AD25 VCC@147 (power), AD26 IOAD26, AD27 GND@33 (power), AD28 NC20, AD29 GND@175 (power), AD30 GND@174 (power), AD31 GXB_TX_L4P, AD32 GXB_TX_L4N, AD33 GND@173 (power), AD34 GND@172 (power), AE1 GXB_RX_R3N, AE2 GXB_RX_R3P, AE3 GND@236 (power), AE4 GND@235 (power), AE5 GXB_CMURX_R2N, AE6 GXB_CMURX_R2P, AE7 NC17, AE8 NCEO, AE9 IOAE9, AE10 IOAE10, AE11 IOAE11, AE12 IOAE12, AE13 IOAE13, AE14 IOAE14, AE15 IOAE15, AE16 IOAE16, AE17 VCC@8 (power), AE18 IOAE18, AE19 IOAE19, AE20 IOAE20, AE21 IOAE21, AE22 IOAE22, AE23 VCC@29 (power), AE24 IOAE24, AE25 IOAE25, AE26 IOAE26, AE27 IOAE27, AE28 NC18, AE29 GXB_CMURX_L2P, AE30 GXB_CMURX_L2N, AE31 GND@177 (power), AE32 GND@176 (power), AE33 GXB_RX_L3P, AE34 GXB_RX_L3N, AF1 GND@240 (power), AF2 GND@239 (power), AF3 GXB_TX_R3N, AF4 GXB_TX_R3P, AF5 GND@238 (power), AF6 GND@237 (power), AF7 NC15, AF8 GND@27 (power), AF9 VCC@40 (power), AF11 VCC@43 (power), AF12 IOAF12, AF14 IOAF14, AF16 IOAF16, AF17 VCC@141 (power), AF18 VCC@3 (power), AF19 IOAF19, AF21 IOAF21, AF23 IOAF23, AF24 IOAF24, AF25 VCC@26 (power), AF27 VCC@140 (power), AF28 NC16, AF29 GND@181 (power), AF30 GND@180 (power), AF31 GXB_TX_L3P, AF32 GXB_TX_L3N, AF33 GND@179 (power), AF34 GND@178 (power), AG1 GXB_RX_R2N, AG2 GXB_RX_R2P, AG3 GND@242 (power), AG4 GND@241 (power), AG5 GXB_CMURX_R1N, AG6 GXB_CMURX_R1P, AG7 NC13, AG8 VCC@142 (power), AG9 GND@20 (power), AG10 IOAG10, AG11 IOAG11, AG12 GND@21 (power), AG13 IOAG13, AG14 IOAG14, AG15 GND@22 (power), AG16 IOAG16, AG17 VCC@6 (power), AG18 GND@23 (power), AG19 IOAG19, AG20 IOAG20, AG21 GND@24 (power), AG22 IOAG22, AG23 IOAG23, AG24 GND@25 (power), AG25 IOAG25, AG26 IOAG26, AG27 GND@26 (power), AG28 NC14, AG29 GXB_CMURX_L1P, AG30 GXB_CMURX_L1N, AG31 GND@183 (power), AG32 GND@182 (power), AG33 GXB_RX_L2P, AG34 GXB_RX_L2N, AH1 GND@246 (power), AH2 GND@245 (power), AH3 GXB_TX_R2N, AH4 GXB_TX_R2P, AH5 GND@244 (power), AH6 GND@243 (power), AH7 NC11, AH8 IOAH8, AH9 IOAH9, AH10 VCC@42 (power), AH11 IOAH11, AH12 IOAH12, AH13 IOAH13, AH14 VCC@37 (power), AH15 IOAH15, AH16 IOAH16, AH17 VCC@7 (power), AH18 VCC@5 (power), AH19 IOAH19, AH20 VCC@32 (power), AH21 IOAH21, AH22 IOAH22, AH23 IOAH23, AH24 IOAH24, AH25 IOAH25, AH26 IOAH26, AH27 IOAH27, AH28 NC12, AH29 GND@198 (power), AH30 GND@199 (power), AH31 GXB_TX_L2P, AH32 GXB_TX_L2N, AH33 GND@200 (power), AH34 GND@201 (power), AJ1 GXB_RX_R1N, AJ2 GXB_RX_R1P, AJ3 GND@248 (power), AJ4 GND@247 (power), AJ5 GXB_CMURX_R0N, AJ6 GXB_CMURX_R0P, AJ7 NC9, AJ8 IOAJ8, AJ9 IOAJ9, AJ10 IOAJ10, AJ11 IOAJ11, AJ12 IOAJ12, AJ13 IOAJ13, AJ14 IOAJ14, AJ15 IOAJ15, AJ16 IOAJ16, AJ17 VCC@35 (power), AJ18 VCC@4 (power), AJ19 IOAJ19, AJ20 IOAJ20, AJ21 IOAJ21, AJ22 IOAJ22, AJ23 VCC@30 (power), AJ24 IOAJ24, AJ25 IOAJ25, AJ26 VCC@28 (power), AJ27 IOAJ27, AJ28 NC10, AJ29 GXB_CMURX_L0P, AJ30 GXB_CMURX_L0N, AJ31 GND@196 (power), AJ32 GND@197 (power), AJ33 GXB_RX_L1P, AJ34 GXB_RX_L1N, AK1 GND@252 (power), AK2 GND@251 (power), AK3 GXB_TX_R1N, AK4 GXB_TX_R1P, AK5 GND@250 (power), AK6 GND@249 (power), AK7 NC3, AK8 IOAK8, AK9 GND@13 (power), AK10 IOAK10, AK11 IOAK11, AK12 GND@14 (power), AK13 IOAK13, AK14 IOAK14, AK15 GND@15 (power), AK16 IOAK16, AK17 IOAK17, AK18 GND@16 (power), AK19 IOAK19, AK20 IOAK20, AK21 GND@17 (power), AK22 IOAK22, AK23 IOAK23, AK24 GND@18 (power), AK25 IOAK25, AK26 IOAK26, AK27 GND@19 (power), AK28 NC2, AK29 GND@192 (power), AK30 GND@193 (power), AK31 GXB_TX_L1P, AK32 GXB_TX_L1N, AK33 GND@194 (power), AK34 GND@195 (power), AL1 GXB_RX_R0N, AL2 GXB_RX_R0P, AL3 GND@254 (power), AL4 GND@253 (power), AL5 NC7, AL6 NC8, AL7 IOAL7, AL8 IOAL8, AL9 IOAL9, AL10 VCC@39 (power), AL11 IOAL11, AL12 IOAL12, AL13 VCC@38 (power), AL14 IOAL14, AL15 IOAL15, AL16 IOAL16, AL17 IOAL17, AL18 IOAL18, AL19 IOAL19, AL20 IOAL20, AL21 IOAL21, AL22 VCC@34 (power), AL23 IOAL23, AL24 IOAL24, AL25 VCC@31 (power), AL26 IOAL26, AL27 IOAL27, AL28 PORSEL, AL29 NC5, AL30 NC6, AL31 GND@190 (power), AL32 GND@191 (power), AL33 GXB_RX_L0P, AL34 GXB_RX_L0N, AM1 GND@256 (power), AM2 GND@255 (power), AM3 GXB_TX_R0N, AM4 GXB_TX_R0P, AM5 DCLK, AM6 NIO_PULLUP, AM7 VCC@41 (power), AM8 IOAM8, AM9 IOAM9, AM10 IOAM10, AM11 IOAM11, AM12 IOAM12, AM13 IOAM13, AM14 IOAM14, AM15 IOAM15, AM16 IOAM16, AM17 IOAM17, AM18 IOAM18, AM19 IOAM19, AM20 IOAM20, AM21 IOAM21, AM22 IOAM22, AM23 IOAM23, AM24 IOAM24, AM25 IOAM25, AM26 IOAM26, AM27 IOAM27, AM28 VCC@27 (power), AM29 NCE, AM30 NSTATUS, AM31 GXB_TX_L0P, AM32 GXB_TX_L0N, AM33 GND@188 (power), AM34 GND@189 (power), AN1 RREF_R0, AN2 GND@259 (power), AN3 GND@258 (power), AN4 GND@257 (power), AN5 ASDO, AN6 GND@4 (power), AN7 IOAN7, AN8 IOAN8, AN9 GND@5 (power), AN10 IOAN10, AN11 IOAN11, AN12 GND@6 (power), AN13 IOAN13, AN14 IOAN14, AN15 GND@7 (power), AN16 VCC@36 (power), AN17 IOAN17, AN18 GND@8 (power), AN19 VCC@33 (power), AN20 IOAN20, AN21 GND@9 (power), AN22 IOAN22, AN23 IOAN23, AN24 GND@10 (power), AN25 IOAN25, AN26 IOAN26, AN27 GND@11 (power), AN28 IOAN28, AN29 GND@12 (power), AN30 CONF_DONE, AN31 GND@185 (power), AN32 GND@186 (power), AN33 GND@187 (power), AN34 RREF_L0, AP2 GND@260 (power), AP3 IOAP3, AP4 IOAP4, AP5 IOAP5, AP6 IOAP6, AP7 IOAP7, AP8 IOAP8, AP9 IOAP9, AP10 IOAP10, AP11 IOAP11, AP12 IOAP12, AP13 IOAP13, AP14 IOAP14, AP15 IOAP15, AP16 IOAP16, AP17 IOAP17, AP18 IOAP18, AP19 IOAP19, AP20 IOAP20, AP21 IOAP21, AP22 IOAP22, AP23 IOAP23, AP24 IOAP24, AP25 IOAP25, AP26 IOAP26, AP27 IOAP27, AP28 IOAP28, AP29 IOAP29, AP30 IOAP30, AP31 IOAP31, AP32 IOAP32, AP33 GND@184 (power), B1 IOB1, B2 GND@133 (power), B3 IOB3, B4 IOB4, B5 GND@134 (power), B6 IOB6, B7 IOB7, B8 GND@135 (power), B9 IOB9, B10 IOB10, B11 GND@136 (power), B12 IOB12, B13 IOB13, B14 GND@137 (power), B15 IOB15, B16 IOB16, B17 GND@138 (power), B18 IOB18, B19 VCC@62 (power), B20 GND@139 (power), B21 IOB21, B22 IOB22, B23 GND@140 (power), B24 IOB24, B25 IOB25, B26 GND@141 (power), B27 IOB27, B28 IOB28, B29 GND@142 (power), B30 IOB30, B31 IOB31, B32 GND@3 (power), B33 IOB33, B34 IOB34, C1 IOC1, C2 IOC2, C3 TEMPDIODEN, C4 VCC@56 (power), C5 IOC5, C6 IOC6, C7 VCC@53 (power), C8 IOC8, C9 IOC9, C10 IOC10, C11 IOC11, C12 IOC12, C13 IOC13, C14 IOC14, C15 IOC15, C16 IOC16, C17 IOC17, C18 IOC18, C19 IOC19, C20 IOC20, C21 IOC21, C22 IOC22, C23 IOC23, C24 IOC24, C25 IOC25, C26 IOC26, C27 IOC27, C28 VCC@67 (power), C29 IOC29, C30 IOC30, C31 IOC31, C32 IOC32, C33 GND@132 (power), C34 IOC34, D1 IOD1, D2 IOD2, D3 IOD3, D4 IOD4, D5 TEMPDIODEP, D6 IOD6, D7 IOD7, D8 IOD8, D9 IOD9, D10 VCC@58 (power), D11 IOD11, D12 IOD12, D13 VCC@61 (power), D14 IOD14, D15 IOD15, D16 VCC@59 (power), D17 IOD17, D18 IOD18, D19 IOD19, D20 IOD20, D21 IOD21, D22 VCC@66 (power), D23 IOD23, D24 IOD24, D25 VCC@65 (power), D26 IOD26, D27 IOD27, D28 IOD28, D29 IOD29, D30 IOD30, D31 NC1, D32 IOD32, D33 IOD33, D34 IOD34, E1 IOE1, E2 GND@122 (power), E3 IOE3, E4 IOE4, E5 GND@123 (power), E6 IOE6, E7 IOE7, E8 GND@124 (power), E9 IOE9, E10 IOE10, E11 GND@125 (power), E12 IOE12, E13 IOE13, E14 GND@126 (power), E15 IOE15, E16 IOE16, E17 GND@127 (power), E18 IOE18, E19 IOE19, E20 GND@128 (power), E21 IOE21, E22 IOE22, E23 GND@129 (power), E24 IOE24, E25 IOE25, E26 GND@130 (power), E27 IOE27, E28 IOE28, E29 GND@131 (power), E30 IOE30, E31 IOE31, E32 VCC@21 (power), E33 IOE33, E34 IOE34, F1 IOF1, F2 IOF2, F3 VCC@48 (power), F4 IOF4, F5 IOF5, F6 IOF6, F7 IOF7, F8 IOF8, F9 VCC@55 (power), F10 IOF10, F11 IOF11, F12 VCC@57 (power), F13 IOF13, F14 IOF14, F15 IOF15, F16 IOF16, F17 VCC@12 (power), F18 VCC@64 (power), F19 IOF19, F20 IOF20, F21 IOF21, F22 IOF22, F23 IOF23, F24 IOF24, F25 IOF25, F26 IOF26, F27 IOF27, F28 VCC@70 (power), F29 TCK, F30 GND@120 (power), F31 IOF31, F32 IOF32, F33 GND@121 (power), F34 IOF34, G1 IOG1, G2 IOG2, G3 IOG3, G4 IOG4, G5 VCC@52 (power), G6 VCC@149 (power), G7 NC4, G8 IOG8, G9 IOG9, G10 IOG10, G11 IOG11, G12 IOG12, G13 IOG13, G14 IOG14, G15 VCC@60 (power), G16 IOG16, G17 VCC@13 (power), G18 VCC@15 (power), G19 IOG19, G20 IOG20, G21 VCC@63 (power), G22 IOG22, G23 IOG23, G24 VCC@69 (power), G25 IOG25, G26 IOG26, G27 IOG27, G28 TDI, G29 TDO (out), G30 IOG30, G31 IOG31, G32 IOG32, G33 IOG33, G34 IOG34, H1 IOH1, H2 GND@111 (power), H3 IOH3, H4 IOH4, H5 GND@112 (power), H6 IOH6, H7 IOH7, H8 GND@113 (power), H9 IOH9, H10 IOH10, H11 GND@114 (power), H12 IOH12, H13 IOH13, H14 GND@115 (power), H15 IOH15, H16 IOH16, H17 GND@116 (power), H18 VCC@14 (power), H19 IOH19, H20 GND@117 (power), H21 IOH21, H22 IOH22, H23 GND@118 (power), H24 IOH24, H25 IOH25, H26 GND@119 (power), H27 VCC@137 (power), H28 TMS, H29 IOH29, H30 IOH30, H31 IOH31, H32 VCC@20 (power), H33 IOH33, H34 IOH34, J1 IOJ1, J2 IOJ2, J3 IOJ3, J4 IOJ4, J5 IOJ5, J6 IOJ6, J7 VCC@51 (power), J8 VCC@145 (power), J9 MSEL0, J11 IOJ11, J12 IOJ12, J14 IOJ14, J16 IOJ16, J17 VCC@11 (power), J18 VCC@146 (power), J19 IOJ19, J21 IOJ21, J23 IOJ23, J24 IOJ24, J25 IOJ25, J27 GND@108 (power), J28 IOJ28, J29 IOJ29, J30 GND@109 (power), J31 IOJ31, J32 IOJ32, J33 GND@110 (power), J34 IOJ34, K1 IOK1, K2 IOK2, K3 IOK3, K4 VCC@50 (power), K5 IOK5, K6 IOK6, K7 IOK7, K8 IOK8, K9 MSEL2, K10 VCC@54 (power), K11 IOK11, K12 IOK12, K13 IOK13, K14 IOK14, K15 IOK15, K16 IOK16, K17 IOK17, K18 VCC@16 (power), K19 IOK19, K20 IOK20, K21 IOK21, K22 IOK22, K23 IOK23, K24 IOK24, K25 IOK25, K26 TRST, K27 VCC@19 (power), K28 IOK28, K29 IOK29, K30 IOK30, K31 IOK31, K32 IOK32, K33 IOK33, K34 IOK34, L1 IOL1, L2 GND@100 (power), L3 IOL3, L4 IOL4, L5 GND@101 (power), L6 IOL6, L7 IOL7, L8 GND@102 (power), L9 VCC@49 (power), L10 MSEL1, L11 GND@103 (power), L12 IOL12, L13 IOL13, L14 GND@104 (power), L15 IOL15, L16 IOL16, L17 GND@105 (power), L18 IOL18, L19 IOL19, L20 GND@106 (power), L21 IOL21, L22 IOL22, L23 GND@107 (power), L24 IOL24, L25 VCC@68 (power), L26 IOL26, L27 IOL27, L28 IOL28, L29 IOL29, L30 IOL30, L31 IOL31, L32 VCC@22 (power), L33 IOL33, L34 IOL34, M1 IOM1, M2 IOM2, M3 VCC@47 (power), M4 IOM4, M5 IOM5, M6 IOM6, M7 IOM7, M8 IOM8, M9 IOM9, M11 IOM11, M12 VCC@131 (power), M13 IOM13, M14 VCC@132 (power), M15 IOM15, M16 VCC@133 (power), M17 IOM17, M18 VCC@134 (power), M19 IOM19, M20 VCC@135 (power), M21 IOM21, M22 VCC@136 (power), M23 IOM23, M24 GND@96 (power), M25 IOM25, M27 GND@97 (power), M28 VCC@18 (power), M29 IOM29, M30 GND@98 (power), M31 IOM31, M32 IOM32, M33 GND@99 (power), M34 IOM34, N1 ION1, N2 ION2, N3 ION3, N4 ION4, N5 ION5, N6 ION6, N7 VCC@44 (power), N8 ION8, N9 ION9, N10 ION10, N11 ION11, N12 ION12, N13 VCC@117 (power), N14 GND@91 (power), N15 VCC@118 (power), N16 GND@92 (power), N17 VCC@119 (power), N18 GND@93 (power), N19 VCC@72 (power), N20 GND@94 (power), N21 VCC@120 (power), N22 GND@95 (power), N23 VCC@121 (power), N24 ION24, N25 ION25, N26 ION26, N27 ION27, N28 ION28, N29 ION29, N30 ION30, N31 ION31, N32 ION32, N33 ION33, N34 ION34, P1 CLK10P, P2 GND@82 (power), P3 IOP3, P4 IOP4, P5 GND@83 (power), P6 IOP6, P7 IOP7, P8 GND@84 (power), P9 IOP9, P10 IOP10, P11 GND@85 (power), P12 VCC@130 (power), P13 GND@86 (power), P14 VCC@112 (power), P15 GND@87 (power), P16 VCC@113 (power), P17 GND@88 (power), P18 VCC@114 (power), P19 GND@89 (power), P20 VCC@115 (power), P21 GND@90 (power), P22 VCC@116 (power), P23 IOP23, P24 IOP24, P25 VCC@17 (power), P26 IOP26, P27 IOP27, P28 IOP28, P29 IOP29, P30 VCC@25 (power), P31 IOP31, P32 IOP32, P33 IOP33, P34 CLK1N, R1 CLK10N, R2 IOR2, R3 IOR3, R4 VCC@45 (power), R5 IOR5, R6 IOR6, R7 IOR7, R8 IOR8, R9 VCC@46 (power), R11 IOR11, R12 IOR12, R13 VCC@107 (power), R14 GND@73 (power), R15 VCC@108 (power), R16 GND@74 (power), R17 VCC@109 (power), R18 GND@75 (power), R19 VCC@110 (power), R20 GND@76 (power), R21 VCC@111 (power), R22 GND@77 (power), R23 VCC@122 (power), R24 GND@78 (power), R25 IOR25, R27 GND@79 (power), R28 VCC@24 (power), R29 IOR29, R30 GND@80 (power), R31 IOR31, R32 IOR32, R33 GND@81 (power), R34 CLK1P, T1 GND@204 (power), T2 GND@203 (power), T3 GND@202 (power), T4 IOT4, T5 IOT5, T6 IOT6, T7 IOT7, T8 IOT8, T9 IOT9, T10 IOT10, T11 IOT11, T12 VCC@129 (power), T13 GND@68 (power), T14 VCC@102 (power), T15 GND@69 (power), T16 VCC@103 (power), T17 GND@70 (power), T18 VCC@104 (power), T19 GND@71 (power), T20 VCC@105 (power), T21 GND@72 (power), T22 VCC@106 (power), T23 IOT23, T24 IOT24, T25 IOT25, T26 IOT26, T27 IOT27, T28 IOT28, T29 IOT29, T30 IOT30, T31 IOT31, T32 GND@145 (power), T33 GND@144 (power), T34 GND@143 (power), U1 GXB_RX_R7N, U2 GXB_RX_R7P, U3 GND@208 (power), U4 GND@207 (power), U5 VCC@168 (power), U6 GND@206 (power), U7 VCC@157 (power), U8 GND@205 (power), U9 VCC@187 (power), U10 IOU10, U11 GND@63 (power), U12 IOU12, U13 VCC@98 (power), U14 GND@64 (power), U15 VCC@99 (power), U16 GND@65 (power), U17 VCC@71 (power), U18 GND@2 (power), U19 VCC@100 (power), U20 GND@66 (power), U21 VCC@101 (power), U22 GND@67 (power), U23 IOU23, U24 IOU24, U25 VCC@23 (power), U26 VCC@183 (power), U27 GND@149 (power), U28 VCC@155 (power), U29 GND@148 (power), U30 VCC@166 (power), U31 GND@147 (power), U32 GND@146 (power), U33 GXB_RX_L7P, U34 GXB_RX_L7N, V1 GND@212 (power), V2 GND@211 (power), V3 GXB_TX_R7N, V4 GXB_TX_R7P, V5 GND@210 (power), V6 VCC@153 (power), V7 GND@209 (power), V8 VCC@165 (power), V9 VCC@186 (power), V10 VCC@9 (power), V11 IOV11, V12 IOV12, V13 GND@58 (power), V14 VCC@93 (power), V15 GND@59 (power), V16 VCC@94 (power), V17 DNU, V18 VCC@95 (power), V19 GND@60 (power), V20 VCC@96 (power), V21 GND@61 (power), V22 VCC@97 (power), V23 IOV23, V24 GND@62 (power), V25 IOV25, V26 VCC@182 (power), V27 VCC@161 (power), V28 GND@153 (power), V29 VCC@151 (power), V30 GND@152 (power), V31 GXB_TX_L7P, V32 GXB_TX_L7N, V33 GND@151 (power), V34 GND@150 (power), W1 GXB_RX_R6N, W2 GXB_RX_R6P, W3 GND@216 (power), W4 GND@215 (power), W5 VCC@173 (power), W6 GND@214 (power), W7 VCC@164 (power), W8 GND@213 (power), W9 VCC@177 (power), W10 VCC@10 (power), W11 VCC@143 (power), W12 VCC@144 (power), W13 VCC@88 (power), W14 GND@53 (power), W15 VCC@89 (power), W16 GND@54 (power), W17 VCC@90 (power), W18 GND@55 (power), W19 VCC@91 (power), W20 GND@56 (power), W21 VCC@92 (power), W22 GND@57 (power), W23 IOW23, W24 VCC@2 (power), W25 VCC@1 (power), W26 VCC@174 (power), W27 GND@157 (power), W28 VCC@160 (power), W29 GND@156 (power), W30 VCC@171 (power), W31 GND@155 (power), W32 GND@154 (power), W33 GXB_RX_L6P, W34 GXB_RX_L6N, Y1 GND@220 (power), Y2 GND@219 (power), Y3 GXB_TX_R6N, Y4 GXB_TX_R6P, Y5 GND@218 (power), Y6 VCC@152 (power), Y7 GND@217 (power), Y8 VCC@162 (power), Y9 VCC@179 (power), Y10 VCC@178 (power), Y11 GND@47 (power), Y12 IOY12, Y13 GND@48 (power), Y14 VCC@83 (power), Y15 GND@49 (power), Y16 VCC@84 (power), Y17 GND@50 (power), Y18 VCC@85 (power), Y19 GND@51 (power), Y20 VCC@86 (power), Y21 GND@52 (power), Y22 VCC@87 (power), Y23 VCC@138 (power), Y24 VCC@139 (power), Y25 VCC@176 (power), Y26 VCC@175 (power), Y27 VCC@159 (power), Y28 GND@161 (power), Y29 VCC@150 (power), Y30 GND@160 (power), Y31 GXB_TX_L6P, Y32 GXB_TX_L6N, Y33 GND@159 (power), Y34 GND@158 (power)